# Altium integrated library Linear Technology Power Management System Supervisor, Monitor and Control.IntLib: 1611 symbols (part 55 of 100)
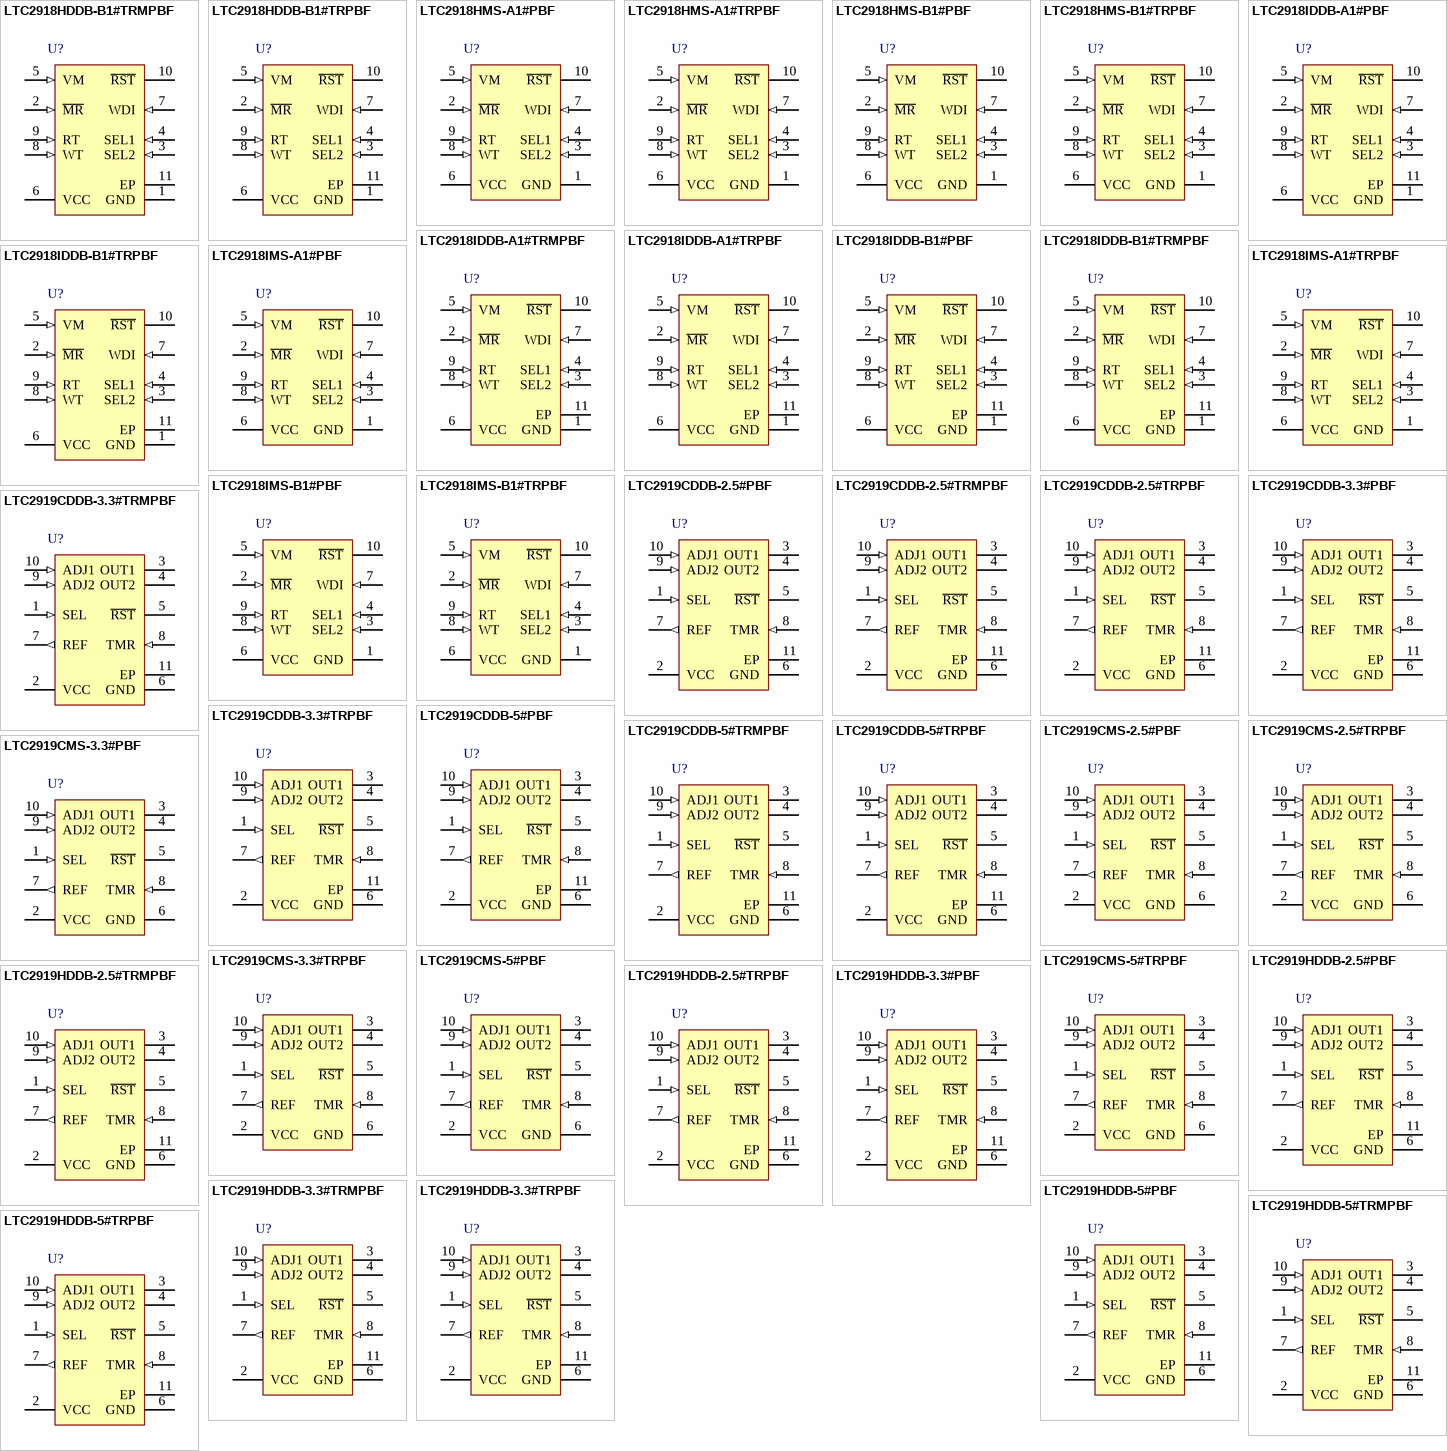
[diagram p99: symbols LTC2918HDDB-B1#TRMPBF to LTC2919HDDB-5#TRPBF]

## LTC2919HDDB-2.5#TRMPBF
designator U?
Precision Triple / Dual Input UV, OV and Negative Voltage Monitor, 10-pin SON (DDB10), -40 to 125 degC, Pb-Free, Mini Tape and Reel; Manufacturer: Linear Technology; PartNumber: LTC2919HDDB-2.5#TRMPBF; Number of Supplies(#): 3; PackageVersion: Rev. Ø, 06/2010; PackageReference: DDB10; PackageDescription: 10-Pin Plastic DFN, Body 3 x 2 mm, Pitch 0.5 mm; Supplier 1: Digi-Key; Supplier Part Number 1: LTC2919HDDB-2.5#TRMPBF-ND; Packing: Mini Tape and Reel; RoHS: TRUE; Mounting Technology: Surface Mount; Code_JEDEC: MO-229; ComponentLink1Description: Manufacturer URL; ComponentLink1URL: http://www.linear.com/; ComponentLink2Description: Datasheet; ComponentLink2URL: http://cds.linear.com/docs/en/datasheet/2919f.pdf; ComponentLink3Description: Package Specification; ComponentLink3URL: http://cds.linear.com/docs/en/packaging/DFN_10_05-08-1722.pdf
footprint LT-DDB-10_V (SON, 10-Leads, Body 3x2mm, Pitch 0.5mm, Thermal Pad 2.39x0.64mm)
pins: 1 SEL (in) "Input Polarity Select Three-State Input. Connect to VCC, GND or leave unconnected in open state to select one of three possible input polarity combinations (refer to Table 1).", 2 VCC (power) "Power Supply. Bypass this pin to ground with a 0.1uF (or greater) capacitor. Operates as a direct supply input for voltages up to 6V. Operates as a shunt regulator for supply voltages greater than 6V and should have a (See Datasheet)", 3 OUT1 (oc) "Open-Drain Logic Output 1. Asserts low when positive polarity ADJ1 voltage is below threshold or negative polarity ADJ1 voltage is above threshold. Requires an external pull-up resistor and may be pulled above VCC.", 4 OUT2 (oc) "Open-Drain Logic Output 2. Asserts low when positive polarity ADJ2 voltage is below threshold or negative polarity ADJ2 voltage is above threshold. Requires an external pull-up resistor and may be pulled above VCC.", 5 ~{RST} (oc) "Open-Drain Inverted Reset Logic Output. Asserts low when any positive polarity input voltage is below threshold or any negative polarity input voltage is above threshold or VCC is below UVLO threshold. Held low for a timeout (See Datasheet)", 6 GND (power) "Device Ground.", 7 REF (out) "Buffered Reference Output. 1V nominal reference used for the offset of negative-monitoring applications. The buffered reference can source and sink up to 1mA. The reference can drive a capacitive load of up to 1000pF. Larger (See Datasheet)", 8 TMR (in) "Reset Timeout Control. Attach an external capacitor (CTMR) to GND to set a reset timeout period of 9ms/nF. A low leakage ceramic capacitor is recommended for timer accuracy. Capacitors larger than 1uF (9 second timeout) are (See Datasheet)", 9 ADJ2 (in) "Adjustable Voltage Input 2. Input to voltage monitor comparator 2 (0.5V nominal threshold). The polarity of the input is selected by the state of the SEL pin (refer to Table 1). Tie to GND if unused (with SEL = GND or Open).", 10 ADJ1 (in) "Adjustable Voltage Input 1. Input to voltage monitor comparator 1 (0.5V nominal threshold). The polarity of the input is selected by the state of the SEL pin (refer to Table 1). Tie to REF if unused (with SEL = VCC or Open).", 11 EP (power) "The Exposed Pad may be left unconnected. For better thermal contact, tie to a PCB trace. This trace must be grounded or unconnected."

## LTC2919HDDB-2.5#TRPBF
designator U?
Precision Triple / Dual Input UV, OV and Negative Voltage Monitor, 10-pin SON (DDB10), -40 to 125 degC, Pb-Free, Tape and Reel; Manufacturer: Linear Technology; PartNumber: LTC2919HDDB-2.5#TRPBF; Number of Supplies(#): 3; PackageVersion: Rev. Ø, 06/2010; PackageReference: DDB10; PackageDescription: 10-Pin Plastic DFN, Body 3 x 2 mm, Pitch 0.5 mm; Supplier 1: Digi-Key; Supplier Part Number 1: LTC2919HDDB-2.5#TRPBF-ND; Packing: Tape and Reel; RoHS: TRUE; Mounting Technology: Surface Mount; Code_JEDEC: MO-229; ComponentLink1Description: Manufacturer URL; ComponentLink1URL: http://www.linear.com/; ComponentLink2Description: Datasheet; ComponentLink2URL: http://cds.linear.com/docs/en/datasheet/2919f.pdf; ComponentLink3Description: Package Specification; ComponentLink3URL: http://cds.linear.com/docs/en/packaging/DFN_10_05-08-1722.pdf
footprint LT-DDB-10_V (SON, 10-Leads, Body 3x2mm, Pitch 0.5mm, Thermal Pad 2.39x0.64mm)
pins: 1 SEL (in) "Input Polarity Select Three-State Input. Connect to VCC, GND or leave unconnected in open state to select one of three possible input polarity combinations (refer to Table 1).", 2 VCC (power) "Power Supply. Bypass this pin to ground with a 0.1uF (or greater) capacitor. Operates as a direct supply input for voltages up to 6V. Operates as a shunt regulator for supply voltages greater than 6V and should have a (See Datasheet)", 3 OUT1 (oc) "Open-Drain Logic Output 1. Asserts low when positive polarity ADJ1 voltage is below threshold or negative polarity ADJ1 voltage is above threshold. Requires an external pull-up resistor and may be pulled above VCC.", 4 OUT2 (oc) "Open-Drain Logic Output 2. Asserts low when positive polarity ADJ2 voltage is below threshold or negative polarity ADJ2 voltage is above threshold. Requires an external pull-up resistor and may be pulled above VCC.", 5 ~{RST} (oc) "Open-Drain Inverted Reset Logic Output. Asserts low when any positive polarity input voltage is below threshold or any negative polarity input voltage is above threshold or VCC is below UVLO threshold. Held low for a timeout (See Datasheet)", 6 GND (power) "Device Ground.", 7 REF (out) "Buffered Reference Output. 1V nominal reference used for the offset of negative-monitoring applications. The buffered reference can source and sink up to 1mA. The reference can drive a capacitive load of up to 1000pF. Larger (See Datasheet)", 8 TMR (in) "Reset Timeout Control. Attach an external capacitor (CTMR) to GND to set a reset timeout period of 9ms/nF. A low leakage ceramic capacitor is recommended for timer accuracy. Capacitors larger than 1uF (9 second timeout) are (See Datasheet)", 9 ADJ2 (in) "Adjustable Voltage Input 2. Input to voltage monitor comparator 2 (0.5V nominal threshold). The polarity of the input is selected by the state of the SEL pin (refer to Table 1). Tie to GND if unused (with SEL = GND or Open).", 10 ADJ1 (in) "Adjustable Voltage Input 1. Input to voltage monitor comparator 1 (0.5V nominal threshold). The polarity of the input is selected by the state of the SEL pin (refer to Table 1). Tie to REF if unused (with SEL = VCC or Open).", 11 EP (power) "The Exposed Pad may be left unconnected. For better thermal contact, tie to a PCB trace. This trace must be grounded or unconnected."

## LTC2919HDDB-3.3#PBF
designator U?
Precision Triple / Dual Input UV, OV and Negative Voltage Monitor, 10-pin SON (DDB10), -40 to 125 degC, Pb-Free; Manufacturer: Linear Technology; PartNumber: LTC2919HDDB-3.3#PBF; Number of Supplies(#): 3; PackageVersion: Rev. Ø, 06/2010; PackageReference: DDB10; PackageDescription: 10-Pin Plastic DFN, Body 3 x 2 mm, Pitch 0.5 mm; RoHS: TRUE; Mounting Technology: Surface Mount; Code_JEDEC: MO-229; ComponentLink1Description: Manufacturer URL; ComponentLink1URL: http://www.linear.com/; ComponentLink2Description: Datasheet; ComponentLink2URL: http://cds.linear.com/docs/en/datasheet/2919f.pdf; ComponentLink3Description: Package Specification; ComponentLink3URL: http://cds.linear.com/docs/en/packaging/DFN_10_05-08-1722.pdf
footprint LT-DDB-10_V (SON, 10-Leads, Body 3x2mm, Pitch 0.5mm, Thermal Pad 2.39x0.64mm)
pins: 1 SEL (in) "Input Polarity Select Three-State Input. Connect to VCC, GND or leave unconnected in open state to select one of three possible input polarity combinations (refer to Table 1).", 2 VCC (power) "Power Supply. Bypass this pin to ground with a 0.1uF (or greater) capacitor. Operates as a direct supply input for voltages up to 6V. Operates as a shunt regulator for supply voltages greater than 6V and should have a (See Datasheet)", 3 OUT1 (oc) "Open-Drain Logic Output 1. Asserts low when positive polarity ADJ1 voltage is below threshold or negative polarity ADJ1 voltage is above threshold. Requires an external pull-up resistor and may be pulled above VCC.", 4 OUT2 (oc) "Open-Drain Logic Output 2. Asserts low when positive polarity ADJ2 voltage is below threshold or negative polarity ADJ2 voltage is above threshold. Requires an external pull-up resistor and may be pulled above VCC.", 5 ~{RST} (oc) "Open-Drain Inverted Reset Logic Output. Asserts low when any positive polarity input voltage is below threshold or any negative polarity input voltage is above threshold or VCC is below UVLO threshold. Held low for a timeout (See Datasheet)", 6 GND (power) "Device Ground.", 7 REF (out) "Buffered Reference Output. 1V nominal reference used for the offset of negative-monitoring applications. The buffered reference can source and sink up to 1mA. The reference can drive a capacitive load of up to 1000pF. Larger (See Datasheet)", 8 TMR (in) "Reset Timeout Control. Attach an external capacitor (CTMR) to GND to set a reset timeout period of 9ms/nF. A low leakage ceramic capacitor is recommended for timer accuracy. Capacitors larger than 1uF (9 second timeout) are (See Datasheet)", 9 ADJ2 (in) "Adjustable Voltage Input 2. Input to voltage monitor comparator 2 (0.5V nominal threshold). The polarity of the input is selected by the state of the SEL pin (refer to Table 1). Tie to GND if unused (with SEL = GND or Open).", 10 ADJ1 (in) "Adjustable Voltage Input 1. Input to voltage monitor comparator 1 (0.5V nominal threshold). The polarity of the input is selected by the state of the SEL pin (refer to Table 1). Tie to REF if unused (with SEL = VCC or Open).", 11 EP (power) "The Exposed Pad may be left unconnected. For better thermal contact, tie to a PCB trace. This trace must be grounded or unconnected."

## LTC2919HDDB-3.3#TRMPBF
designator U?
Precision Triple / Dual Input UV, OV and Negative Voltage Monitor, 10-pin SON (DDB10), -40 to 125 degC, Pb-Free, Mini Tape and Reel; Manufacturer: Linear Technology; PartNumber: LTC2919HDDB-3.3#TRMPBF; Number of Supplies(#): 3; PackageVersion: Rev. Ø, 06/2010; PackageReference: DDB10; PackageDescription: 10-Pin Plastic DFN, Body 3 x 2 mm, Pitch 0.5 mm; Supplier 1: Digi-Key; Supplier Part Number 1: LTC2919HDDB-3.3#TRMPBF-ND; Packing: Mini Tape and Reel; RoHS: TRUE; Mounting Technology: Surface Mount; Code_JEDEC: MO-229; ComponentLink1Description: Manufacturer URL; ComponentLink1URL: http://www.linear.com/; ComponentLink2Description: Datasheet; ComponentLink2URL: http://cds.linear.com/docs/en/datasheet/2919f.pdf; ComponentLink3Description: Package Specification; ComponentLink3URL: http://cds.linear.com/docs/en/packaging/DFN_10_05-08-1722.pdf
footprint LT-DDB-10_V (SON, 10-Leads, Body 3x2mm, Pitch 0.5mm, Thermal Pad 2.39x0.64mm)
pins: 1 SEL (in) "Input Polarity Select Three-State Input. Connect to VCC, GND or leave unconnected in open state to select one of three possible input polarity combinations (refer to Table 1).", 2 VCC (power) "Power Supply. Bypass this pin to ground with a 0.1uF (or greater) capacitor. Operates as a direct supply input for voltages up to 6V. Operates as a shunt regulator for supply voltages greater than 6V and should have a (See Datasheet)", 3 OUT1 (oc) "Open-Drain Logic Output 1. Asserts low when positive polarity ADJ1 voltage is below threshold or negative polarity ADJ1 voltage is above threshold. Requires an external pull-up resistor and may be pulled above VCC.", 4 OUT2 (oc) "Open-Drain Logic Output 2. Asserts low when positive polarity ADJ2 voltage is below threshold or negative polarity ADJ2 voltage is above threshold. Requires an external pull-up resistor and may be pulled above VCC.", 5 ~{RST} (oc) "Open-Drain Inverted Reset Logic Output. Asserts low when any positive polarity input voltage is below threshold or any negative polarity input voltage is above threshold or VCC is below UVLO threshold. Held low for a timeout (See Datasheet)", 6 GND (power) "Device Ground.", 7 REF (out) "Buffered Reference Output. 1V nominal reference used for the offset of negative-monitoring applications. The buffered reference can source and sink up to 1mA. The reference can drive a capacitive load of up to 1000pF. Larger (See Datasheet)", 8 TMR (in) "Reset Timeout Control. Attach an external capacitor (CTMR) to GND to set a reset timeout period of 9ms/nF. A low leakage ceramic capacitor is recommended for timer accuracy. Capacitors larger than 1uF (9 second timeout) are (See Datasheet)", 9 ADJ2 (in) "Adjustable Voltage Input 2. Input to voltage monitor comparator 2 (0.5V nominal threshold). The polarity of the input is selected by the state of the SEL pin (refer to Table 1). Tie to GND if unused (with SEL = GND or Open).", 10 ADJ1 (in) "Adjustable Voltage Input 1. Input to voltage monitor comparator 1 (0.5V nominal threshold). The polarity of the input is selected by the state of the SEL pin (refer to Table 1). Tie to REF if unused (with SEL = VCC or Open).", 11 EP (power) "The Exposed Pad may be left unconnected. For better thermal contact, tie to a PCB trace. This trace must be grounded or unconnected."

## LTC2919HDDB-3.3#TRPBF
designator U?
Precision Triple / Dual Input UV, OV and Negative Voltage Monitor, 10-pin SON (DDB10), -40 to 125 degC, Pb-Free, Tape and Reel; Manufacturer: Linear Technology; PartNumber: LTC2919HDDB-3.3#TRPBF; Number of Supplies(#): 3; PackageVersion: Rev. Ø, 06/2010; PackageReference: DDB10; PackageDescription: 10-Pin Plastic DFN, Body 3 x 2 mm, Pitch 0.5 mm; Supplier 1: Digi-Key; Supplier Part Number 1: LTC2919HDDB-3.3#TRPBF-ND; Packing: Tape and Reel; RoHS: TRUE; Mounting Technology: Surface Mount; Code_JEDEC: MO-229; ComponentLink1Description: Manufacturer URL; ComponentLink1URL: http://www.linear.com/; ComponentLink2Description: Datasheet; ComponentLink2URL: http://cds.linear.com/docs/en/datasheet/2919f.pdf; ComponentLink3Description: Package Specification; ComponentLink3URL: http://cds.linear.com/docs/en/packaging/DFN_10_05-08-1722.pdf
footprint LT-DDB-10_V (SON, 10-Leads, Body 3x2mm, Pitch 0.5mm, Thermal Pad 2.39x0.64mm)
pins: 1 SEL (in) "Input Polarity Select Three-State Input. Connect to VCC, GND or leave unconnected in open state to select one of three possible input polarity combinations (refer to Table 1).", 2 VCC (power) "Power Supply. Bypass this pin to ground with a 0.1uF (or greater) capacitor. Operates as a direct supply input for voltages up to 6V. Operates as a shunt regulator for supply voltages greater than 6V and should have a (See Datasheet)", 3 OUT1 (oc) "Open-Drain Logic Output 1. Asserts low when positive polarity ADJ1 voltage is below threshold or negative polarity ADJ1 voltage is above threshold. Requires an external pull-up resistor and may be pulled above VCC.", 4 OUT2 (oc) "Open-Drain Logic Output 2. Asserts low when positive polarity ADJ2 voltage is below threshold or negative polarity ADJ2 voltage is above threshold. Requires an external pull-up resistor and may be pulled above VCC.", 5 ~{RST} (oc) "Open-Drain Inverted Reset Logic Output. Asserts low when any positive polarity input voltage is below threshold or any negative polarity input voltage is above threshold or VCC is below UVLO threshold. Held low for a timeout (See Datasheet)", 6 GND (power) "Device Ground.", 7 REF (out) "Buffered Reference Output. 1V nominal reference used for the offset of negative-monitoring applications. The buffered reference can source and sink up to 1mA. The reference can drive a capacitive load of up to 1000pF. Larger (See Datasheet)", 8 TMR (in) "Reset Timeout Control. Attach an external capacitor (CTMR) to GND to set a reset timeout period of 9ms/nF. A low leakage ceramic capacitor is recommended for timer accuracy. Capacitors larger than 1uF (9 second timeout) are (See Datasheet)", 9 ADJ2 (in) "Adjustable Voltage Input 2. Input to voltage monitor comparator 2 (0.5V nominal threshold). The polarity of the input is selected by the state of the SEL pin (refer to Table 1). Tie to GND if unused (with SEL = GND or Open).", 10 ADJ1 (in) "Adjustable Voltage Input 1. Input to voltage monitor comparator 1 (0.5V nominal threshold). The polarity of the input is selected by the state of the SEL pin (refer to Table 1). Tie to REF if unused (with SEL = VCC or Open).", 11 EP (power) "The Exposed Pad may be left unconnected. For better thermal contact, tie to a PCB trace. This trace must be grounded or unconnected."

## LTC2919HDDB-5#PBF
designator U?
Precision Triple / Dual Input UV, OV and Negative Voltage Monitor, 10-pin SON (DDB10), -40 to 125 degC, Pb-Free; Manufacturer: Linear Technology; PartNumber: LTC2919HDDB-5#PBF; Number of Supplies(#): 3; PackageVersion: Rev. Ø, 06/2010; PackageReference: DDB10; PackageDescription: 10-Pin Plastic DFN, Body 3 x 2 mm, Pitch 0.5 mm; RoHS: TRUE; Mounting Technology: Surface Mount; Code_JEDEC: MO-229; ComponentLink1Description: Manufacturer URL; ComponentLink1URL: http://www.linear.com/; ComponentLink2Description: Datasheet; ComponentLink2URL: http://cds.linear.com/docs/en/datasheet/2919f.pdf; ComponentLink3Description: Package Specification; ComponentLink3URL: http://cds.linear.com/docs/en/packaging/DFN_10_05-08-1722.pdf
footprint LT-DDB-10_V (SON, 10-Leads, Body 3x2mm, Pitch 0.5mm, Thermal Pad 2.39x0.64mm)
pins: 1 SEL (in) "Input Polarity Select Three-State Input. Connect to VCC, GND or leave unconnected in open state to select one of three possible input polarity combinations (refer to Table 1).", 2 VCC (power) "Power Supply. Bypass this pin to ground with a 0.1uF (or greater) capacitor. Operates as a direct supply input for voltages up to 6V. Operates as a shunt regulator for supply voltages greater than 6V and should have a (See Datasheet)", 3 OUT1 (oc) "Open-Drain Logic Output 1. Asserts low when positive polarity ADJ1 voltage is below threshold or negative polarity ADJ1 voltage is above threshold. Requires an external pull-up resistor and may be pulled above VCC.", 4 OUT2 (oc) "Open-Drain Logic Output 2. Asserts low when positive polarity ADJ2 voltage is below threshold or negative polarity ADJ2 voltage is above threshold. Requires an external pull-up resistor and may be pulled above VCC.", 5 ~{RST} (oc) "Open-Drain Inverted Reset Logic Output. Asserts low when any positive polarity input voltage is below threshold or any negative polarity input voltage is above threshold or VCC is below UVLO threshold. Held low for a timeout (See Datasheet)", 6 GND (power) "Device Ground.", 7 REF (out) "Buffered Reference Output. 1V nominal reference used for the offset of negative-monitoring applications. The buffered reference can source and sink up to 1mA. The reference can drive a capacitive load of up to 1000pF. Larger (See Datasheet)", 8 TMR (in) "Reset Timeout Control. Attach an external capacitor (CTMR) to GND to set a reset timeout period of 9ms/nF. A low leakage ceramic capacitor is recommended for timer accuracy. Capacitors larger than 1uF (9 second timeout) are (See Datasheet)", 9 ADJ2 (in) "Adjustable Voltage Input 2. Input to voltage monitor comparator 2 (0.5V nominal threshold). The polarity of the input is selected by the state of the SEL pin (refer to Table 1). Tie to GND if unused (with SEL = GND or Open).", 10 ADJ1 (in) "Adjustable Voltage Input 1. Input to voltage monitor comparator 1 (0.5V nominal threshold). The polarity of the input is selected by the state of the SEL pin (refer to Table 1). Tie to REF if unused (with SEL = VCC or Open).", 11 EP (power) "The Exposed Pad may be left unconnected. For better thermal contact, tie to a PCB trace. This trace must be grounded or unconnected."

## LTC2919HDDB-5#TRMPBF
designator U?
Precision Triple / Dual Input UV, OV and Negative Voltage Monitor, 10-pin SON (DDB10), -40 to 125 degC, Pb-Free, Mini Tape and Reel; Manufacturer: Linear Technology; PartNumber: LTC2919HDDB-5#TRMPBF; Number of Supplies(#): 3; PackageVersion: Rev. Ø, 06/2010; PackageReference: DDB10; PackageDescription: 10-Pin Plastic DFN, Body 3 x 2 mm, Pitch 0.5 mm; Supplier 1: Digi-Key; Supplier Part Number 1: LTC2919HDDB-5#TRMPBF-ND; Packing: Mini Tape and Reel; RoHS: TRUE; Mounting Technology: Surface Mount; Code_JEDEC: MO-229; ComponentLink1Description: Manufacturer URL; ComponentLink1URL: http://www.linear.com/; ComponentLink2Description: Datasheet; ComponentLink2URL: http://cds.linear.com/docs/en/datasheet/2919f.pdf; ComponentLink3Description: Package Specification; ComponentLink3URL: http://cds.linear.com/docs/en/packaging/DFN_10_05-08-1722.pdf
footprint LT-DDB-10_V (SON, 10-Leads, Body 3x2mm, Pitch 0.5mm, Thermal Pad 2.39x0.64mm)
pins: 1 SEL (in) "Input Polarity Select Three-State Input. Connect to VCC, GND or leave unconnected in open state to select one of three possible input polarity combinations (refer to Table 1).", 2 VCC (power) "Power Supply. Bypass this pin to ground with a 0.1uF (or greater) capacitor. Operates as a direct supply input for voltages up to 6V. Operates as a shunt regulator for supply voltages greater than 6V and should have a (See Datasheet)", 3 OUT1 (oc) "Open-Drain Logic Output 1. Asserts low when positive polarity ADJ1 voltage is below threshold or negative polarity ADJ1 voltage is above threshold. Requires an external pull-up resistor and may be pulled above VCC.", 4 OUT2 (oc) "Open-Drain Logic Output 2. Asserts low when positive polarity ADJ2 voltage is below threshold or negative polarity ADJ2 voltage is above threshold. Requires an external pull-up resistor and may be pulled above VCC.", 5 ~{RST} (oc) "Open-Drain Inverted Reset Logic Output. Asserts low when any positive polarity input voltage is below threshold or any negative polarity input voltage is above threshold or VCC is below UVLO threshold. Held low for a timeout (See Datasheet)", 6 GND (power) "Device Ground.", 7 REF (out) "Buffered Reference Output. 1V nominal reference used for the offset of negative-monitoring applications. The buffered reference can source and sink up to 1mA. The reference can drive a capacitive load of up to 1000pF. Larger (See Datasheet)", 8 TMR (in) "Reset Timeout Control. Attach an external capacitor (CTMR) to GND to set a reset timeout period of 9ms/nF. A low leakage ceramic capacitor is recommended for timer accuracy. Capacitors larger than 1uF (9 second timeout) are (See Datasheet)", 9 ADJ2 (in) "Adjustable Voltage Input 2. Input to voltage monitor comparator 2 (0.5V nominal threshold). The polarity of the input is selected by the state of the SEL pin (refer to Table 1). Tie to GND if unused (with SEL = GND or Open).", 10 ADJ1 (in) "Adjustable Voltage Input 1. Input to voltage monitor comparator 1 (0.5V nominal threshold). The polarity of the input is selected by the state of the SEL pin (refer to Table 1). Tie to REF if unused (with SEL = VCC or Open).", 11 EP (power) "The Exposed Pad may be left unconnected. For better thermal contact, tie to a PCB trace. This trace must be grounded or unconnected."

## LTC2919HDDB-5#TRPBF
designator U?
Precision Triple / Dual Input UV, OV and Negative Voltage Monitor, 10-pin SON (DDB10), -40 to 125 degC, Pb-Free, Tape and Reel; Manufacturer: Linear Technology; PartNumber: LTC2919HDDB-5#TRPBF; Number of Supplies(#): 3; PackageVersion: Rev. Ø, 06/2010; PackageReference: DDB10; PackageDescription: 10-Pin Plastic DFN, Body 3 x 2 mm, Pitch 0.5 mm; Supplier 1: Digi-Key; Supplier Part Number 1: LTC2919HDDB-5#TRPBF-ND; Packing: Tape and Reel; RoHS: TRUE; Mounting Technology: Surface Mount; Code_JEDEC: MO-229; ComponentLink1Description: Manufacturer URL; ComponentLink1URL: http://www.linear.com/; ComponentLink2Description: Datasheet; ComponentLink2URL: http://cds.linear.com/docs/en/datasheet/2919f.pdf; ComponentLink3Description: Package Specification; ComponentLink3URL: http://cds.linear.com/docs/en/packaging/DFN_10_05-08-1722.pdf
footprint LT-DDB-10_V (SON, 10-Leads, Body 3x2mm, Pitch 0.5mm, Thermal Pad 2.39x0.64mm)
pins: 1 SEL (in) "Input Polarity Select Three-State Input. Connect to VCC, GND or leave unconnected in open state to select one of three possible input polarity combinations (refer to Table 1).", 2 VCC (power) "Power Supply. Bypass this pin to ground with a 0.1uF (or greater) capacitor. Operates as a direct supply input for voltages up to 6V. Operates as a shunt regulator for supply voltages greater than 6V and should have a (See Datasheet)", 3 OUT1 (oc) "Open-Drain Logic Output 1. Asserts low when positive polarity ADJ1 voltage is below threshold or negative polarity ADJ1 voltage is above threshold. Requires an external pull-up resistor and may be pulled above VCC.", 4 OUT2 (oc) "Open-Drain Logic Output 2. Asserts low when positive polarity ADJ2 voltage is below threshold or negative polarity ADJ2 voltage is above threshold. Requires an external pull-up resistor and may be pulled above VCC.", 5 ~{RST} (oc) "Open-Drain Inverted Reset Logic Output. Asserts low when any positive polarity input voltage is below threshold or any negative polarity input voltage is above threshold or VCC is below UVLO threshold. Held low for a timeout (See Datasheet)", 6 GND (power) "Device Ground.", 7 REF (out) "Buffered Reference Output. 1V nominal reference used for the offset of negative-monitoring applications. The buffered reference can source and sink up to 1mA. The reference can drive a capacitive load of up to 1000pF. Larger (See Datasheet)", 8 TMR (in) "Reset Timeout Control. Attach an external capacitor (CTMR) to GND to set a reset timeout period of 9ms/nF. A low leakage ceramic capacitor is recommended for timer accuracy. Capacitors larger than 1uF (9 second timeout) are (See Datasheet)", 9 ADJ2 (in) "Adjustable Voltage Input 2. Input to voltage monitor comparator 2 (0.5V nominal threshold). The polarity of the input is selected by the state of the SEL pin (refer to Table 1). Tie to GND if unused (with SEL = GND or Open).", 10 ADJ1 (in) "Adjustable Voltage Input 1. Input to voltage monitor comparator 1 (0.5V nominal threshold). The polarity of the input is selected by the state of the SEL pin (refer to Table 1). Tie to REF if unused (with SEL = VCC or Open).", 11 EP (power) "The Exposed Pad may be left unconnected. For better thermal contact, tie to a PCB trace. This trace must be grounded or unconnected."

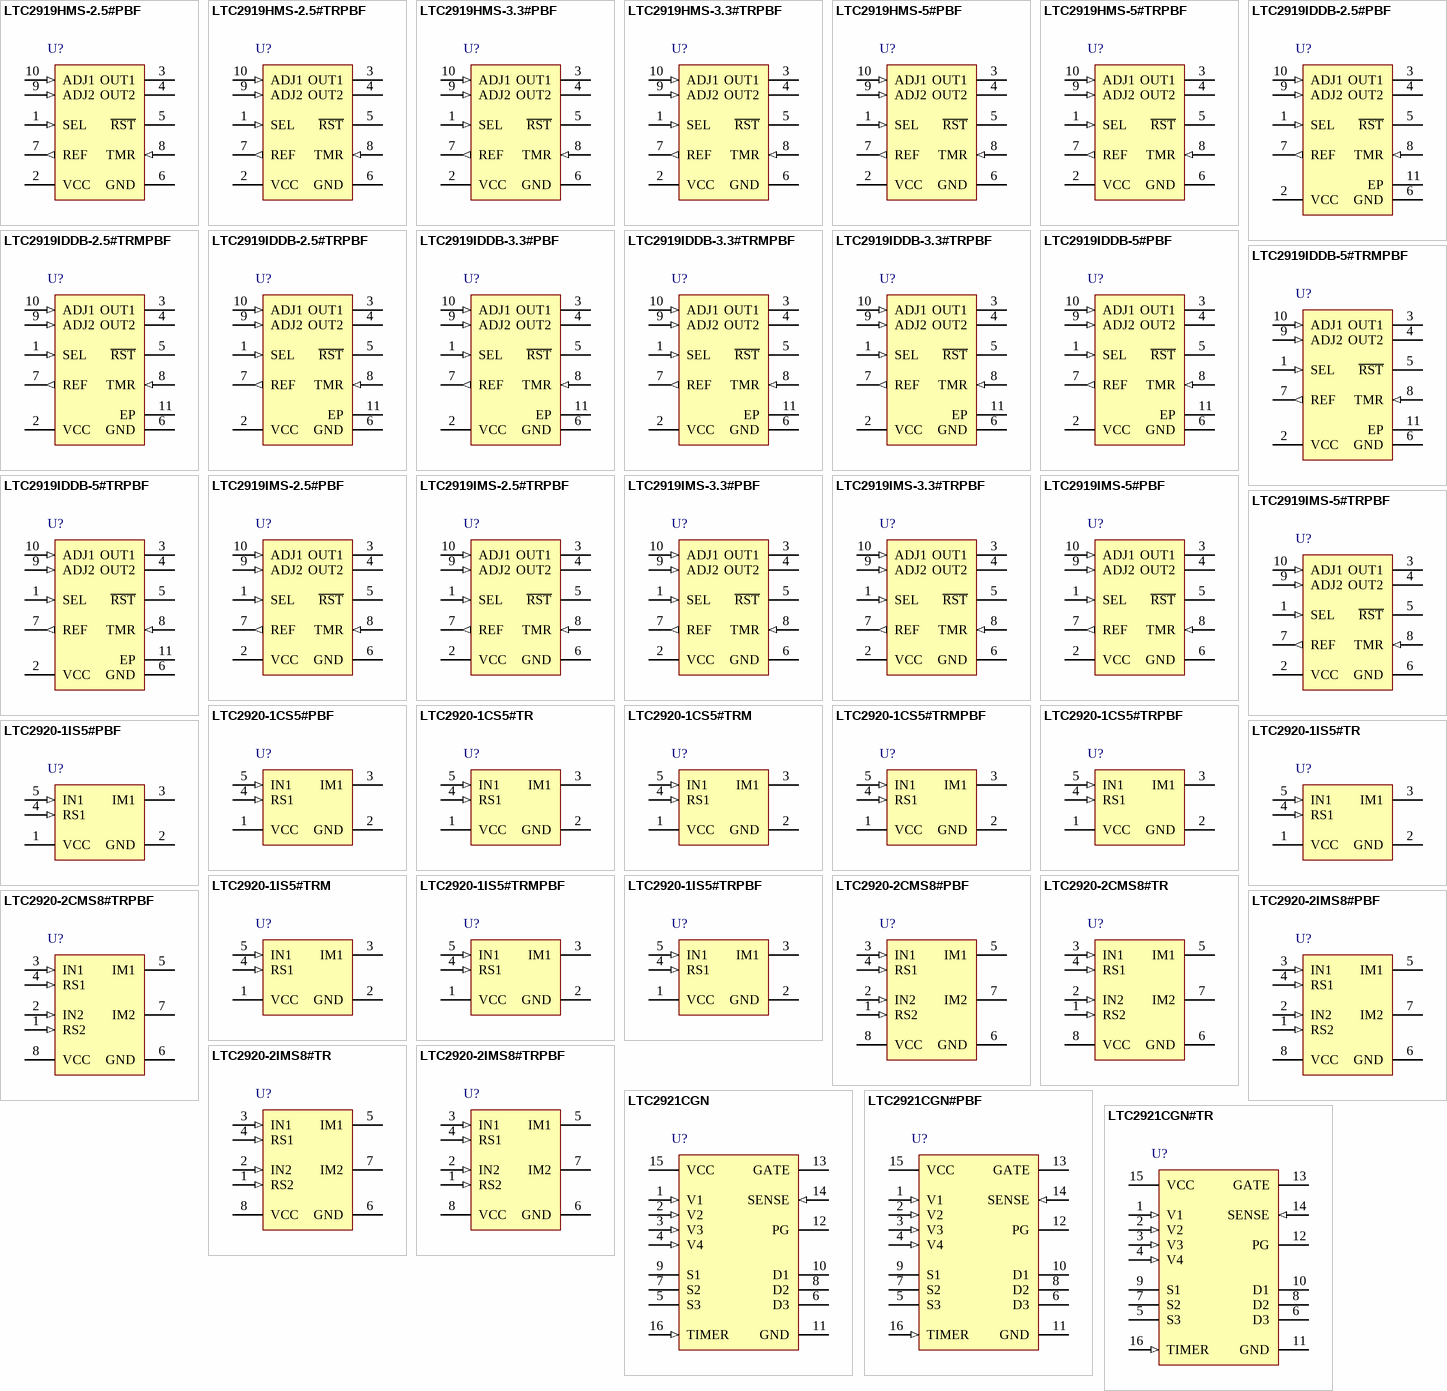
[diagram p26: symbols LTC2919HMS-2.5#PBF to LTC2921CGN#TR]

## LTC2919HMS-2.5#PBF
designator U?
Precision Triple / Dual Input UV, OV and Negative Voltage Monitor, 10-pin SOP (MS-10), -40 to 125 degC, Pb-Free; Manufacturer: Linear Technology; PartNumber: LTC2919HMS-2.5#PBF; Number of Supplies(#): 3; PackageVersion: Rev. E, 06/2010; PackageReference: MS-10; PackageDescription: 10-Pin Plastic MSOP, Body 3 x 3 mm, Pitch 0.5 mm; Supplier 1: Digi-Key; Supplier Part Number 1: LTC2919HMS-2.5#PBF-ND; RoHS: TRUE; Mounting Technology: Surface Mount; ComponentLink1Description: Manufacturer URL; ComponentLink1URL: http://www.linear.com/; ComponentLink2Description: Datasheet; ComponentLink2URL: http://cds.linear.com/docs/en/datasheet/2919f.pdf; ComponentLink3Description: Package Specification; ComponentLink3URL: http://cds.linear.com/docs/en/packaging/05081661_F_MS.pdf
footprint LT-MS-10_N (SOP, 10-Leads, Body 3.1x3.1mm, Pitch 0.5mm, IPC Medium Density)
footprint LT-MS-10_L (SOP, 10-Leads, Body 3.1x3.1mm, Pitch 0.5mm, IPC High Density)
footprint LT-MS-10_M (SOP, 10-Leads, Body 3.1x3.1mm, Pitch 0.5mm, IPC Low Density)
pins: 1 SEL (in) "Input Polarity Select Three-State Input. Connect to VCC, GND or leave unconnected in open state to select one of three possible input polarity combinations (refer to Table 1).", 2 VCC (power) "Power Supply. Bypass this pin to ground with a 0.1uF (or greater) capacitor. Operates as a direct supply input for voltages up to 6V. Operates as a shunt regulator for supply voltages greater than 6V and should have a (See Datasheet)", 3 OUT1 (oc) "Open-Drain Logic Output 1. Asserts low when positive polarity ADJ1 voltage is below threshold or negative polarity ADJ1 voltage is above threshold. Requires an external pull-up resistor and may be pulled above VCC.", 4 OUT2 (oc) "Open-Drain Logic Output 2. Asserts low when positive polarity ADJ2 voltage is below threshold or negative polarity ADJ2 voltage is above threshold. Requires an external pull-up resistor and may be pulled above VCC.", 5 ~{RST} (oc) "Open-Drain Inverted Reset Logic Output. Asserts low when any positive polarity input voltage is below threshold or any negative polarity input voltage is above threshold or VCC is below UVLO threshold. Held low for a timeout (See Datasheet)", 6 GND (power) "Device Ground.", 7 REF (out) "Buffered Reference Output. 1V nominal reference used for the offset of negative-monitoring applications. The buffered reference can source and sink up to 1mA. The reference can drive a capacitive load of up to 1000pF. Larger (See Datasheet)", 8 TMR (in) "Reset Timeout Control. Attach an external capacitor (CTMR) to GND to set a reset timeout period of 9ms/nF. A low leakage ceramic capacitor is recommended for timer accuracy. Capacitors larger than 1uF (9 second timeout) are (See Datasheet)", 9 ADJ2 (in) "Adjustable Voltage Input 2. Input to voltage monitor comparator 2 (0.5V nominal threshold). The polarity of the input is selected by the state of the SEL pin (refer to Table 1). Tie to GND if unused (with SEL = GND or Open).", 10 ADJ1 (in) "Adjustable Voltage Input 1. Input to voltage monitor comparator 1 (0.5V nominal threshold). The polarity of the input is selected by the state of the SEL pin (refer to Table 1). Tie to REF if unused (with SEL = VCC or Open)."

## LTC2919HMS-2.5#TRPBF
designator U?
Precision Triple / Dual Input UV, OV and Negative Voltage Monitor, 10-pin SOP (MS-10), -40 to 125 degC, Pb-Free, Tape and Reel; Manufacturer: Linear Technology; PartNumber: LTC2919HMS-2.5#TRPBF; Number of Supplies(#): 3; PackageVersion: Rev. E, 06/2010; PackageReference: MS-10; PackageDescription: 10-Pin Plastic MSOP, Body 3 x 3 mm, Pitch 0.5 mm; Supplier 1: Digi-Key; Supplier Part Number 1: LTC2919HMS-2.5#TRPBF-ND; Packing: Tape and Reel; RoHS: TRUE; Mounting Technology: Surface Mount; ComponentLink1Description: Manufacturer URL; ComponentLink1URL: http://www.linear.com/; ComponentLink2Description: Datasheet; ComponentLink2URL: http://cds.linear.com/docs/en/datasheet/2919f.pdf; ComponentLink3Description: Package Specification; ComponentLink3URL: http://cds.linear.com/docs/en/packaging/05081661_F_MS.pdf
footprint LT-MS-10_N (SOP, 10-Leads, Body 3.1x3.1mm, Pitch 0.5mm, IPC Medium Density)
footprint LT-MS-10_L (SOP, 10-Leads, Body 3.1x3.1mm, Pitch 0.5mm, IPC High Density)
footprint LT-MS-10_M (SOP, 10-Leads, Body 3.1x3.1mm, Pitch 0.5mm, IPC Low Density)
pins: 1 SEL (in) "Input Polarity Select Three-State Input. Connect to VCC, GND or leave unconnected in open state to select one of three possible input polarity combinations (refer to Table 1).", 2 VCC (power) "Power Supply. Bypass this pin to ground with a 0.1uF (or greater) capacitor. Operates as a direct supply input for voltages up to 6V. Operates as a shunt regulator for supply voltages greater than 6V and should have a (See Datasheet)", 3 OUT1 (oc) "Open-Drain Logic Output 1. Asserts low when positive polarity ADJ1 voltage is below threshold or negative polarity ADJ1 voltage is above threshold. Requires an external pull-up resistor and may be pulled above VCC.", 4 OUT2 (oc) "Open-Drain Logic Output 2. Asserts low when positive polarity ADJ2 voltage is below threshold or negative polarity ADJ2 voltage is above threshold. Requires an external pull-up resistor and may be pulled above VCC.", 5 ~{RST} (oc) "Open-Drain Inverted Reset Logic Output. Asserts low when any positive polarity input voltage is below threshold or any negative polarity input voltage is above threshold or VCC is below UVLO threshold. Held low for a timeout (See Datasheet)", 6 GND (power) "Device Ground.", 7 REF (out) "Buffered Reference Output. 1V nominal reference used for the offset of negative-monitoring applications. The buffered reference can source and sink up to 1mA. The reference can drive a capacitive load of up to 1000pF. Larger (See Datasheet)", 8 TMR (in) "Reset Timeout Control. Attach an external capacitor (CTMR) to GND to set a reset timeout period of 9ms/nF. A low leakage ceramic capacitor is recommended for timer accuracy. Capacitors larger than 1uF (9 second timeout) are (See Datasheet)", 9 ADJ2 (in) "Adjustable Voltage Input 2. Input to voltage monitor comparator 2 (0.5V nominal threshold). The polarity of the input is selected by the state of the SEL pin (refer to Table 1). Tie to GND if unused (with SEL = GND or Open).", 10 ADJ1 (in) "Adjustable Voltage Input 1. Input to voltage monitor comparator 1 (0.5V nominal threshold). The polarity of the input is selected by the state of the SEL pin (refer to Table 1). Tie to REF if unused (with SEL = VCC or Open)."

## LTC2919HMS-3.3#PBF
designator U?
Precision Triple / Dual Input UV, OV and Negative Voltage Monitor, 10-pin SOP (MS-10), -40 to 125 degC, Pb-Free; Manufacturer: Linear Technology; PartNumber: LTC2919HMS-3.3#PBF; Number of Supplies(#): 3; PackageVersion: Rev. E, 06/2010; PackageReference: MS-10; PackageDescription: 10-Pin Plastic MSOP, Body 3 x 3 mm, Pitch 0.5 mm; Supplier 1: Digi-Key; Supplier Part Number 1: LTC2919HMS-3.3#PBF-ND; RoHS: TRUE; Mounting Technology: Surface Mount; ComponentLink1Description: Manufacturer URL; ComponentLink1URL: http://www.linear.com/; ComponentLink2Description: Datasheet; ComponentLink2URL: http://cds.linear.com/docs/en/datasheet/2919f.pdf; ComponentLink3Description: Package Specification; ComponentLink3URL: http://cds.linear.com/docs/en/packaging/05081661_F_MS.pdf
footprint LT-MS-10_N (SOP, 10-Leads, Body 3.1x3.1mm, Pitch 0.5mm, IPC Medium Density)
footprint LT-MS-10_L (SOP, 10-Leads, Body 3.1x3.1mm, Pitch 0.5mm, IPC High Density)
footprint LT-MS-10_M (SOP, 10-Leads, Body 3.1x3.1mm, Pitch 0.5mm, IPC Low Density)
pins: 1 SEL (in) "Input Polarity Select Three-State Input. Connect to VCC, GND or leave unconnected in open state to select one of three possible input polarity combinations (refer to Table 1).", 2 VCC (power) "Power Supply. Bypass this pin to ground with a 0.1uF (or greater) capacitor. Operates as a direct supply input for voltages up to 6V. Operates as a shunt regulator for supply voltages greater than 6V and should have a (See Datasheet)", 3 OUT1 (oc) "Open-Drain Logic Output 1. Asserts low when positive polarity ADJ1 voltage is below threshold or negative polarity ADJ1 voltage is above threshold. Requires an external pull-up resistor and may be pulled above VCC.", 4 OUT2 (oc) "Open-Drain Logic Output 2. Asserts low when positive polarity ADJ2 voltage is below threshold or negative polarity ADJ2 voltage is above threshold. Requires an external pull-up resistor and may be pulled above VCC.", 5 ~{RST} (oc) "Open-Drain Inverted Reset Logic Output. Asserts low when any positive polarity input voltage is below threshold or any negative polarity input voltage is above threshold or VCC is below UVLO threshold. Held low for a timeout (See Datasheet)", 6 GND (power) "Device Ground.", 7 REF (out) "Buffered Reference Output. 1V nominal reference used for the offset of negative-monitoring applications. The buffered reference can source and sink up to 1mA. The reference can drive a capacitive load of up to 1000pF. Larger (See Datasheet)", 8 TMR (in) "Reset Timeout Control. Attach an external capacitor (CTMR) to GND to set a reset timeout period of 9ms/nF. A low leakage ceramic capacitor is recommended for timer accuracy. Capacitors larger than 1uF (9 second timeout) are (See Datasheet)", 9 ADJ2 (in) "Adjustable Voltage Input 2. Input to voltage monitor comparator 2 (0.5V nominal threshold). The polarity of the input is selected by the state of the SEL pin (refer to Table 1). Tie to GND if unused (with SEL = GND or Open).", 10 ADJ1 (in) "Adjustable Voltage Input 1. Input to voltage monitor comparator 1 (0.5V nominal threshold). The polarity of the input is selected by the state of the SEL pin (refer to Table 1). Tie to REF if unused (with SEL = VCC or Open)."

## LTC2919HMS-3.3#TRPBF
designator U?
Precision Triple / Dual Input UV, OV and Negative Voltage Monitor, 10-pin SOP (MS-10), -40 to 125 degC, Pb-Free, Tape and Reel; Manufacturer: Linear Technology; PartNumber: LTC2919HMS-3.3#TRPBF; Number of Supplies(#): 3; PackageVersion: Rev. E, 06/2010; PackageReference: MS-10; PackageDescription: 10-Pin Plastic MSOP, Body 3 x 3 mm, Pitch 0.5 mm; Supplier 1: Digi-Key; Supplier Part Number 1: LTC2919HMS-3.3#TRPBF-ND; Packing: Tape and Reel; RoHS: TRUE; Mounting Technology: Surface Mount; ComponentLink1Description: Manufacturer URL; ComponentLink1URL: http://www.linear.com/; ComponentLink2Description: Datasheet; ComponentLink2URL: http://cds.linear.com/docs/en/datasheet/2919f.pdf; ComponentLink3Description: Package Specification; ComponentLink3URL: http://cds.linear.com/docs/en/packaging/05081661_F_MS.pdf
footprint LT-MS-10_N (SOP, 10-Leads, Body 3.1x3.1mm, Pitch 0.5mm, IPC Medium Density)
footprint LT-MS-10_L (SOP, 10-Leads, Body 3.1x3.1mm, Pitch 0.5mm, IPC High Density)
footprint LT-MS-10_M (SOP, 10-Leads, Body 3.1x3.1mm, Pitch 0.5mm, IPC Low Density)
pins: 1 SEL (in) "Input Polarity Select Three-State Input. Connect to VCC, GND or leave unconnected in open state to select one of three possible input polarity combinations (refer to Table 1).", 2 VCC (power) "Power Supply. Bypass this pin to ground with a 0.1uF (or greater) capacitor. Operates as a direct supply input for voltages up to 6V. Operates as a shunt regulator for supply voltages greater than 6V and should have a (See Datasheet)", 3 OUT1 (oc) "Open-Drain Logic Output 1. Asserts low when positive polarity ADJ1 voltage is below threshold or negative polarity ADJ1 voltage is above threshold. Requires an external pull-up resistor and may be pulled above VCC.", 4 OUT2 (oc) "Open-Drain Logic Output 2. Asserts low when positive polarity ADJ2 voltage is below threshold or negative polarity ADJ2 voltage is above threshold. Requires an external pull-up resistor and may be pulled above VCC.", 5 ~{RST} (oc) "Open-Drain Inverted Reset Logic Output. Asserts low when any positive polarity input voltage is below threshold or any negative polarity input voltage is above threshold or VCC is below UVLO threshold. Held low for a timeout (See Datasheet)", 6 GND (power) "Device Ground.", 7 REF (out) "Buffered Reference Output. 1V nominal reference used for the offset of negative-monitoring applications. The buffered reference can source and sink up to 1mA. The reference can drive a capacitive load of up to 1000pF. Larger (See Datasheet)", 8 TMR (in) "Reset Timeout Control. Attach an external capacitor (CTMR) to GND to set a reset timeout period of 9ms/nF. A low leakage ceramic capacitor is recommended for timer accuracy. Capacitors larger than 1uF (9 second timeout) are (See Datasheet)", 9 ADJ2 (in) "Adjustable Voltage Input 2. Input to voltage monitor comparator 2 (0.5V nominal threshold). The polarity of the input is selected by the state of the SEL pin (refer to Table 1). Tie to GND if unused (with SEL = GND or Open).", 10 ADJ1 (in) "Adjustable Voltage Input 1. Input to voltage monitor comparator 1 (0.5V nominal threshold). The polarity of the input is selected by the state of the SEL pin (refer to Table 1). Tie to REF if unused (with SEL = VCC or Open)."

## LTC2919HMS-5#PBF
designator U?
Precision Triple / Dual Input UV, OV and Negative Voltage Monitor, 10-pin SOP (MS-10), -40 to 125 degC, Pb-Free; Manufacturer: Linear Technology; PartNumber: LTC2919HMS-5#PBF; Number of Supplies(#): 3; PackageVersion: Rev. E, 06/2010; PackageReference: MS-10; PackageDescription: 10-Pin Plastic MSOP, Body 3 x 3 mm, Pitch 0.5 mm; Supplier 1: Digi-Key; Supplier Part Number 1: LTC2919HMS-5#PBF-ND; Supplier 2: Farnell; Supplier Part Number 2: 2295436; Supplier 3: Newark; Supplier Part Number 3: 88M1878; RoHS: TRUE; Mounting Technology: Surface Mount; ComponentLink1Description: Manufacturer URL; ComponentLink1URL: http://www.linear.com/; ComponentLink2Description: Datasheet; ComponentLink2URL: http://cds.linear.com/docs/en/datasheet/2919f.pdf; ComponentLink3Description: Package Specification; ComponentLink3URL: http://cds.linear.com/docs/en/packaging/05081661_F_MS.pdf
footprint LT-MS-10_N (SOP, 10-Leads, Body 3.1x3.1mm, Pitch 0.5mm, IPC Medium Density)
footprint LT-MS-10_L (SOP, 10-Leads, Body 3.1x3.1mm, Pitch 0.5mm, IPC High Density)
footprint LT-MS-10_M (SOP, 10-Leads, Body 3.1x3.1mm, Pitch 0.5mm, IPC Low Density)
pins: 1 SEL (in) "Input Polarity Select Three-State Input. Connect to VCC, GND or leave unconnected in open state to select one of three possible input polarity combinations (refer to Table 1).", 2 VCC (power) "Power Supply. Bypass this pin to ground with a 0.1uF (or greater) capacitor. Operates as a direct supply input for voltages up to 6V. Operates as a shunt regulator for supply voltages greater than 6V and should have a (See Datasheet)", 3 OUT1 (oc) "Open-Drain Logic Output 1. Asserts low when positive polarity ADJ1 voltage is below threshold or negative polarity ADJ1 voltage is above threshold. Requires an external pull-up resistor and may be pulled above VCC.", 4 OUT2 (oc) "Open-Drain Logic Output 2. Asserts low when positive polarity ADJ2 voltage is below threshold or negative polarity ADJ2 voltage is above threshold. Requires an external pull-up resistor and may be pulled above VCC.", 5 ~{RST} (oc) "Open-Drain Inverted Reset Logic Output. Asserts low when any positive polarity input voltage is below threshold or any negative polarity input voltage is above threshold or VCC is below UVLO threshold. Held low for a timeout (See Datasheet)", 6 GND (power) "Device Ground.", 7 REF (out) "Buffered Reference Output. 1V nominal reference used for the offset of negative-monitoring applications. The buffered reference can source and sink up to 1mA. The reference can drive a capacitive load of up to 1000pF. Larger (See Datasheet)", 8 TMR (in) "Reset Timeout Control. Attach an external capacitor (CTMR) to GND to set a reset timeout period of 9ms/nF. A low leakage ceramic capacitor is recommended for timer accuracy. Capacitors larger than 1uF (9 second timeout) are (See Datasheet)", 9 ADJ2 (in) "Adjustable Voltage Input 2. Input to voltage monitor comparator 2 (0.5V nominal threshold). The polarity of the input is selected by the state of the SEL pin (refer to Table 1). Tie to GND if unused (with SEL = GND or Open).", 10 ADJ1 (in) "Adjustable Voltage Input 1. Input to voltage monitor comparator 1 (0.5V nominal threshold). The polarity of the input is selected by the state of the SEL pin (refer to Table 1). Tie to REF if unused (with SEL = VCC or Open)."

## LTC2919HMS-5#TRPBF
designator U?
Precision Triple / Dual Input UV, OV and Negative Voltage Monitor, 10-pin SOP (MS-10), -40 to 125 degC, Pb-Free, Tape and Reel; Manufacturer: Linear Technology; PartNumber: LTC2919HMS-5#TRPBF; Number of Supplies(#): 3; PackageVersion: Rev. E, 06/2010; PackageReference: MS-10; PackageDescription: 10-Pin Plastic MSOP, Body 3 x 3 mm, Pitch 0.5 mm; Supplier 1: Digi-Key; Supplier Part Number 1: LTC2919HMS-5#TRPBF-ND; Packing: Tape and Reel; RoHS: TRUE; Mounting Technology: Surface Mount; ComponentLink1Description: Manufacturer URL; ComponentLink1URL: http://www.linear.com/; ComponentLink2Description: Datasheet; ComponentLink2URL: http://cds.linear.com/docs/en/datasheet/2919f.pdf; ComponentLink3Description: Package Specification; ComponentLink3URL: http://cds.linear.com/docs/en/packaging/05081661_F_MS.pdf
footprint LT-MS-10_N (SOP, 10-Leads, Body 3.1x3.1mm, Pitch 0.5mm, IPC Medium Density)
footprint LT-MS-10_L (SOP, 10-Leads, Body 3.1x3.1mm, Pitch 0.5mm, IPC High Density)
footprint LT-MS-10_M (SOP, 10-Leads, Body 3.1x3.1mm, Pitch 0.5mm, IPC Low Density)
pins: 1 SEL (in) "Input Polarity Select Three-State Input. Connect to VCC, GND or leave unconnected in open state to select one of three possible input polarity combinations (refer to Table 1).", 2 VCC (power) "Power Supply. Bypass this pin to ground with a 0.1uF (or greater) capacitor. Operates as a direct supply input for voltages up to 6V. Operates as a shunt regulator for supply voltages greater than 6V and should have a (See Datasheet)", 3 OUT1 (oc) "Open-Drain Logic Output 1. Asserts low when positive polarity ADJ1 voltage is below threshold or negative polarity ADJ1 voltage is above threshold. Requires an external pull-up resistor and may be pulled above VCC.", 4 OUT2 (oc) "Open-Drain Logic Output 2. Asserts low when positive polarity ADJ2 voltage is below threshold or negative polarity ADJ2 voltage is above threshold. Requires an external pull-up resistor and may be pulled above VCC.", 5 ~{RST} (oc) "Open-Drain Inverted Reset Logic Output. Asserts low when any positive polarity input voltage is below threshold or any negative polarity input voltage is above threshold or VCC is below UVLO threshold. Held low for a timeout (See Datasheet)", 6 GND (power) "Device Ground.", 7 REF (out) "Buffered Reference Output. 1V nominal reference used for the offset of negative-monitoring applications. The buffered reference can source and sink up to 1mA. The reference can drive a capacitive load of up to 1000pF. Larger (See Datasheet)", 8 TMR (in) "Reset Timeout Control. Attach an external capacitor (CTMR) to GND to set a reset timeout period of 9ms/nF. A low leakage ceramic capacitor is recommended for timer accuracy. Capacitors larger than 1uF (9 second timeout) are (See Datasheet)", 9 ADJ2 (in) "Adjustable Voltage Input 2. Input to voltage monitor comparator 2 (0.5V nominal threshold). The polarity of the input is selected by the state of the SEL pin (refer to Table 1). Tie to GND if unused (with SEL = GND or Open).", 10 ADJ1 (in) "Adjustable Voltage Input 1. Input to voltage monitor comparator 1 (0.5V nominal threshold). The polarity of the input is selected by the state of the SEL pin (refer to Table 1). Tie to REF if unused (with SEL = VCC or Open)."

## LTC2919IDDB-2.5#PBF
designator U?
Precision Triple / Dual Input UV, OV and Negative Voltage Monitor, 10-pin SON (DDB10), -40 to 85 degC, Pb-Free; Manufacturer: Linear Technology; PartNumber: LTC2919IDDB-2.5#PBF; Number of Supplies(#): 3; PackageVersion: Rev. Ø, 06/2010; PackageReference: DDB10; PackageDescription: 10-Pin Plastic DFN, Body 3 x 2 mm, Pitch 0.5 mm; RoHS: TRUE; Mounting Technology: Surface Mount; Code_JEDEC: MO-229; ComponentLink1Description: Manufacturer URL; ComponentLink1URL: http://www.linear.com/; ComponentLink2Description: Datasheet; ComponentLink2URL: http://cds.linear.com/docs/en/datasheet/2919f.pdf; ComponentLink3Description: Package Specification; ComponentLink3URL: http://cds.linear.com/docs/en/packaging/DFN_10_05-08-1722.pdf
footprint LT-DDB-10_V (SON, 10-Leads, Body 3x2mm, Pitch 0.5mm, Thermal Pad 2.39x0.64mm)
pins: 1 SEL (in) "Input Polarity Select Three-State Input. Connect to VCC, GND or leave unconnected in open state to select one of three possible input polarity combinations (refer to Table 1).", 2 VCC (power) "Power Supply. Bypass this pin to ground with a 0.1uF (or greater) capacitor. Operates as a direct supply input for voltages up to 6V. Operates as a shunt regulator for supply voltages greater than 6V and should have a (See Datasheet)", 3 OUT1 (oc) "Open-Drain Logic Output 1. Asserts low when positive polarity ADJ1 voltage is below threshold or negative polarity ADJ1 voltage is above threshold. Requires an external pull-up resistor and may be pulled above VCC.", 4 OUT2 (oc) "Open-Drain Logic Output 2. Asserts low when positive polarity ADJ2 voltage is below threshold or negative polarity ADJ2 voltage is above threshold. Requires an external pull-up resistor and may be pulled above VCC.", 5 ~{RST} (oc) "Open-Drain Inverted Reset Logic Output. Asserts low when any positive polarity input voltage is below threshold or any negative polarity input voltage is above threshold or VCC is below UVLO threshold. Held low for a timeout (See Datasheet)", 6 GND (power) "Device Ground.", 7 REF (out) "Buffered Reference Output. 1V nominal reference used for the offset of negative-monitoring applications. The buffered reference can source and sink up to 1mA. The reference can drive a capacitive load of up to 1000pF. Larger (See Datasheet)", 8 TMR (in) "Reset Timeout Control. Attach an external capacitor (CTMR) to GND to set a reset timeout period of 9ms/nF. A low leakage ceramic capacitor is recommended for timer accuracy. Capacitors larger than 1uF (9 second timeout) are (See Datasheet)", 9 ADJ2 (in) "Adjustable Voltage Input 2. Input to voltage monitor comparator 2 (0.5V nominal threshold). The polarity of the input is selected by the state of the SEL pin (refer to Table 1). Tie to GND if unused (with SEL = GND or Open).", 10 ADJ1 (in) "Adjustable Voltage Input 1. Input to voltage monitor comparator 1 (0.5V nominal threshold). The polarity of the input is selected by the state of the SEL pin (refer to Table 1). Tie to REF if unused (with SEL = VCC or Open).", 11 EP (power) "The Exposed Pad may be left unconnected. For better thermal contact, tie to a PCB trace. This trace must be grounded or unconnected."